# Altium integrated library NSC OtherParts.IntLib: 191 symbols (part 5 of 6)
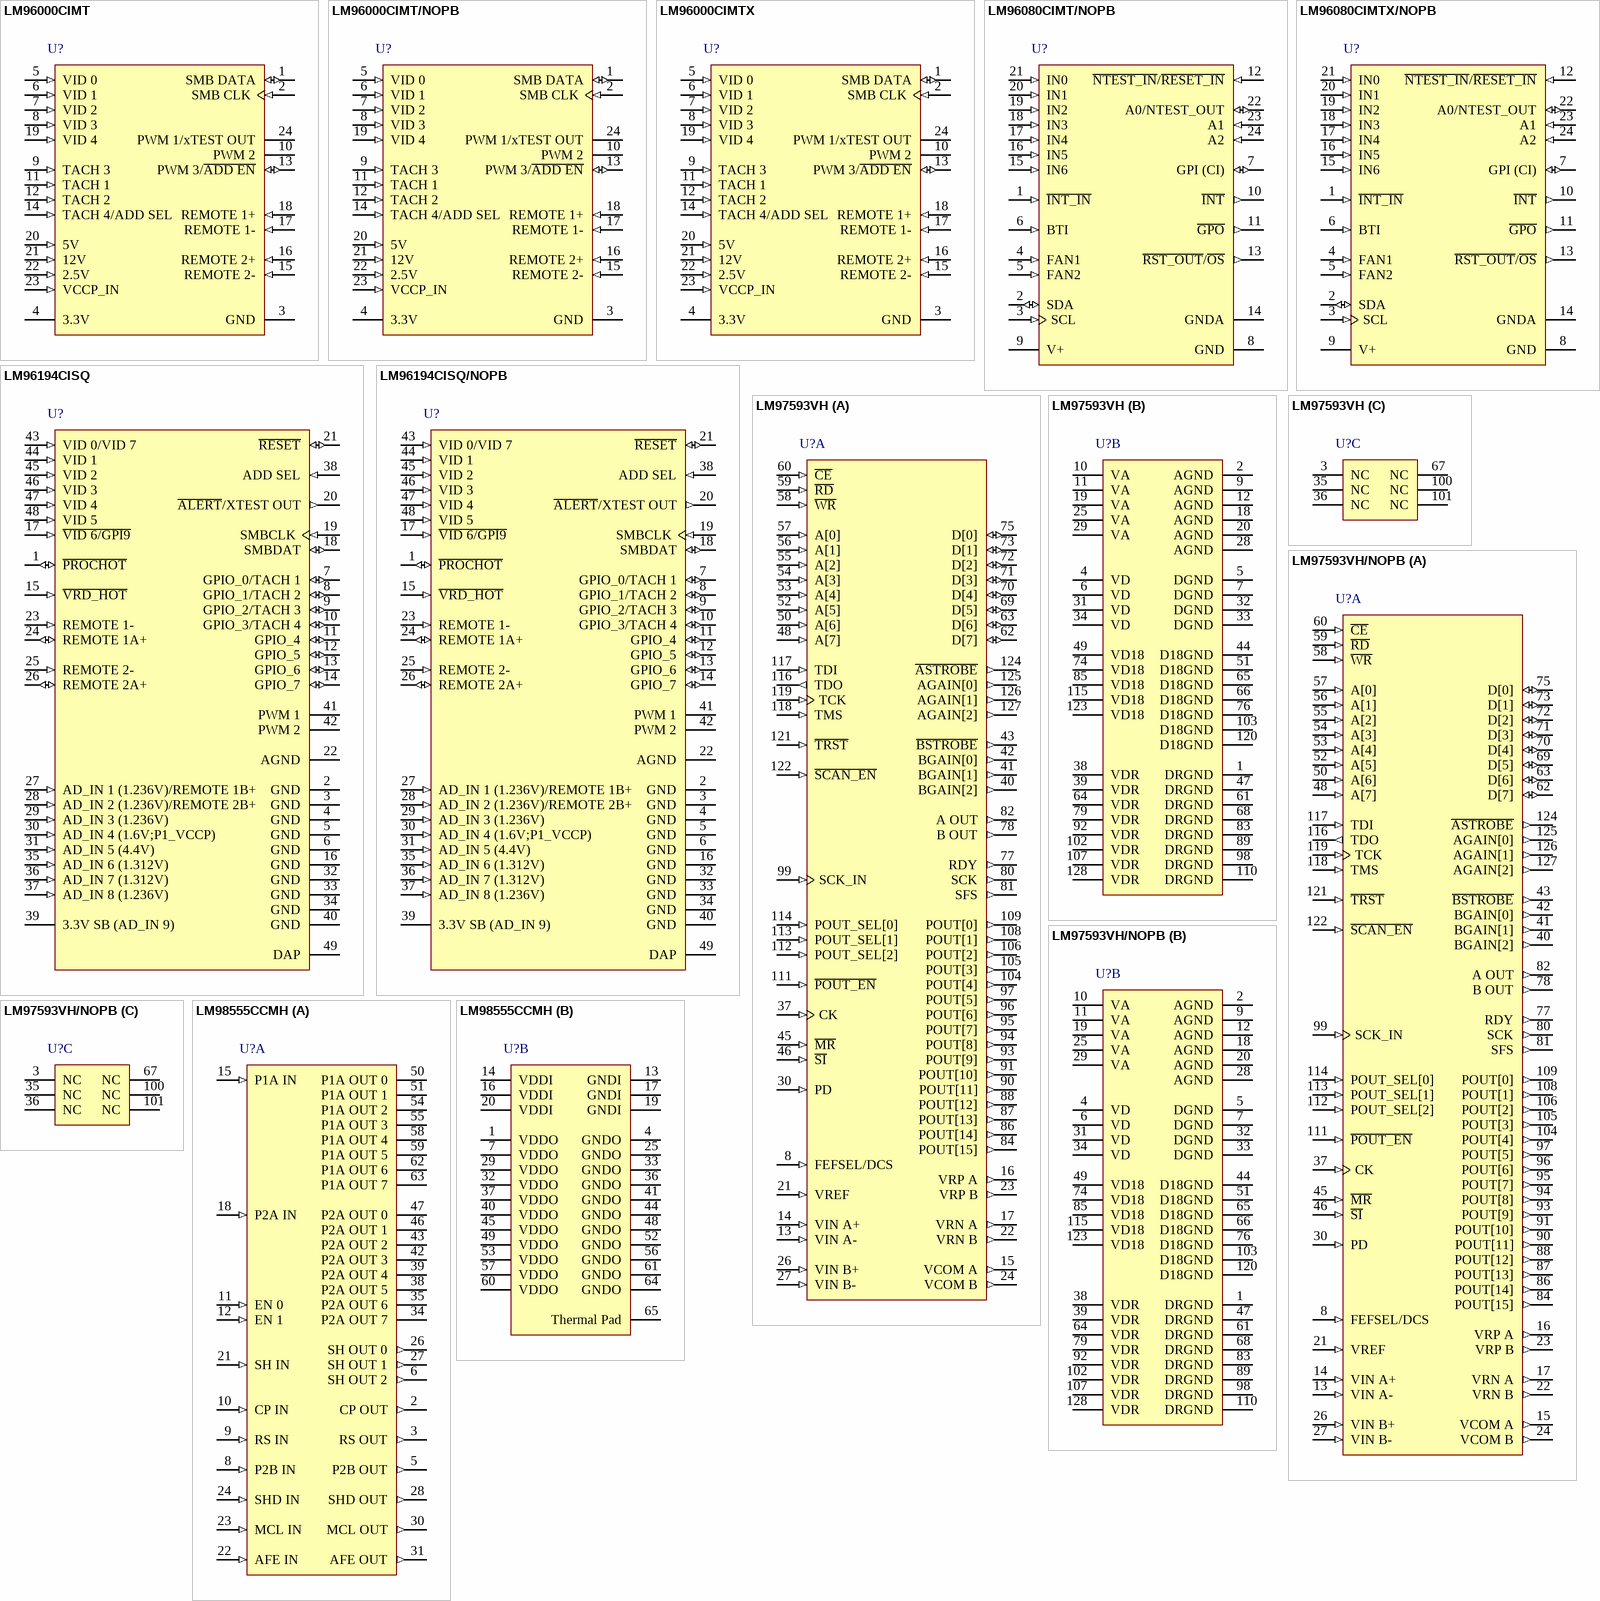
[diagram p14: symbols LM96000CIMT to LM98555CCMH]

## LM96000CIMT
designator U?
Hardware Monitor with Integrated Fan Control, 24-pin TSSOP; PartNumber: LM96000CIMT; Manufacturer: National Semiconductor; PackageTopMarking: NSUZXYTTE#*LM96000*CIMT; PowerWise: Y; CompType: OtherParts; Published: 4-Dec-2008; DatasheetVersion: Jul-2008; PackageVersion: revE, Mar-2003; PackageReference: MTC24; Publisher: Altium Limited; PackageDescription: Molded TSSOP, Jedec, 7.8 x 4.4 x 0.9mm Body, 24 Lead, 0.65mm Pitch; Supplier 1: Farnell; Supplier Part Number 1: 8181616; RoHS: N; PinCount: 24; Code_JEDEC: MO-153-AD; ComponentLink1Description: LM96000 Datasheet; ComponentLink1URL: http://www.national.com/ds/LM/LM96000.pdf; ComponentLink2Description: LM96000 Web Page; ComponentLink2URL: http://www.national.com/pf/LM/LM96000.html; ComponentLink3Description: MTC24 Package Page; ComponentLink3URL: http://www.national.com/packaging/folders/mtc24.html
footprint MTC24_N (TSOP, 24-Leads, Body 7.8x4.4mm, Pitch 0.65mm, IPC Medium Density)
footprint MTC24_L (TSOP, 24-Leads, Body 7.8x4.4mm, Pitch 0.65mm, IPC High Density)
footprint MTC24_M (TSOP, 24-Leads, Body 7.8x4.4mm, Pitch 0.65mm, IPC Low Density)
pins: 1 SMB DATA (io), 2 SMB CLK (in), 3 GND (power), 4 3.3V (power), 5 VID 0 (in), 6 VID 1 (in), 7 VID 2 (in), 8 VID 3 (in), 9 TACH 3 (in), 10 PWM 2 (oe), 11 TACH 1 (in), 12 TACH 2 (in), 13 PWM 3/~{ADD EN} (io), 14 TACH 4/ADD SEL (in), 15 REMOTE 2- (in), 16 REMOTE 2+ (in), 17 REMOTE 1- (in), 18 REMOTE 1+ (in), 19 VID 4 (in), 20 5V (in), 21 12V (in), 22 2.5V (in), 23 VCCP_IN (in), 24 PWM 1/xTEST OUT (oe)

## LM96000CIMT/NOPB
designator U?
Hardware Monitor with Integrated Fan Control, 24-pin TSSOP, Pb-Free; PartNumber: LM96000CIMT/NOPB; Manufacturer: National Semiconductor; PackageTopMarking: NSUZXYTTE#*LM96000*CIMT; PowerWise: Y; CompType: OtherParts; Published: 1-Mar-2010; DatasheetVersion: Jul-2008; PackageVersion: revE, Mar-2003; PackageReference: MTC24; Publisher: Altium Limited; PackageDescription: Molded TSSOP, Jedec, 7.8 x 4.4 x 0.9mm Body, 24 Lead, 0.65mm Pitch; Supplier 1: Digi-Key; Supplier Part Number 1: LM96000CIMT-ND; Supplier 2: Farnell; Supplier Part Number 2: 1685663; RoHS: Y; PinCount: 24; Code_JEDEC: MO-153-AD; ComponentLink1Description: LM96000 Datasheet; ComponentLink1URL: http://www.national.com/ds/LM/LM96000.pdf; ComponentLink2Description: LM96000 Web Page; ComponentLink2URL: http://www.national.com/pf/LM/LM96000.html; ComponentLink3Description: MTC24 Package Page; ComponentLink3URL: http://www.national.com/packaging/folders/mtc24.html
footprint MTC24_N (TSOP, 24-Leads, Body 7.8x4.4mm, Pitch 0.65mm, IPC Medium Density)
footprint MTC24_L (TSOP, 24-Leads, Body 7.8x4.4mm, Pitch 0.65mm, IPC High Density)
footprint MTC24_M (TSOP, 24-Leads, Body 7.8x4.4mm, Pitch 0.65mm, IPC Low Density)
pins: 1 SMB DATA (io), 2 SMB CLK (in), 3 GND (power), 4 3.3V (power), 5 VID 0 (in), 6 VID 1 (in), 7 VID 2 (in), 8 VID 3 (in), 9 TACH 3 (in), 10 PWM 2 (oe), 11 TACH 1 (in), 12 TACH 2 (in), 13 PWM 3/~{ADD EN} (io), 14 TACH 4/ADD SEL (in), 15 REMOTE 2- (in), 16 REMOTE 2+ (in), 17 REMOTE 1- (in), 18 REMOTE 1+ (in), 19 VID 4 (in), 20 5V (in), 21 12V (in), 22 2.5V (in), 23 VCCP_IN (in), 24 PWM 1/xTEST OUT (oe)

## LM96000CIMTX
designator U?
Hardware Monitor with Integrated Fan Control, 24-pin TSSOP; PartNumber: LM96000CIMTX; Manufacturer: National Semiconductor; PackageTopMarking: NSUZXYTTE#*LM96000*CIMT; PowerWise: Y; CompType: OtherParts; Published: 1-Mar-2010; DatasheetVersion: Jul-2008; PackageVersion: revE, Mar-2003; PackageReference: MTC24; Publisher: Altium Limited; PackageDescription: Molded TSSOP, Jedec, 7.8 x 4.4 x 0.9mm Body, 24 Lead, 0.65mm Pitch; RoHS: N; PinCount: 24; Code_JEDEC: MO-153-AD; ComponentLink1Description: LM96000 Datasheet; ComponentLink1URL: http://www.national.com/ds/LM/LM96000.pdf; ComponentLink2Description: LM96000 Web Page; ComponentLink2URL: http://www.national.com/pf/LM/LM96000.html; ComponentLink3Description: MTC24 Package Page; ComponentLink3URL: http://www.national.com/packaging/folders/mtc24.html
footprint MTC24_N (TSOP, 24-Leads, Body 7.8x4.4mm, Pitch 0.65mm, IPC Medium Density)
footprint MTC24_L (TSOP, 24-Leads, Body 7.8x4.4mm, Pitch 0.65mm, IPC High Density)
footprint MTC24_M (TSOP, 24-Leads, Body 7.8x4.4mm, Pitch 0.65mm, IPC Low Density)
pins: 1 SMB DATA (io), 2 SMB CLK (in), 3 GND (power), 4 3.3V (power), 5 VID 0 (in), 6 VID 1 (in), 7 VID 2 (in), 8 VID 3 (in), 9 TACH 3 (in), 10 PWM 2 (oe), 11 TACH 1 (in), 12 TACH 2 (in), 13 PWM 3/~{ADD EN} (io), 14 TACH 4/ADD SEL (in), 15 REMOTE 2- (in), 16 REMOTE 2+ (in), 17 REMOTE 1- (in), 18 REMOTE 1+ (in), 19 VID 4 (in), 20 5V (in), 21 12V (in), 22 2.5V (in), 23 VCCP_IN (in), 24 PWM 1/xTEST OUT (oe)

## LM96080CIMT/NOPB
designator U?
System Hardware Monitor with 2-Wire Serial Interface, 24-pin TSSOP, Pb-Free; PartNumber: LM96080CIMT/NOPB; Manufacturer: National Semiconductor; PackageTopMarking: NSUZXYTTE#*LM96080*CIMT; PowerWise: Y; CompType: OtherParts; Published: 1-Mar-2010; DatasheetVersion: Nov-2009; PackageVersion: revE, Mar-2003; PackageReference: MTC24; Publisher: Altium Limited; PackageDescription: Molded TSSOP, Jedec, 7.8 x 4.4 x 0.9mm Body, 24 Lead, 0.65mm Pitch; Supplier 1: Digi-Key; Supplier Part Number 1: LM96080CIM-ND; Supplier 2: Farnell; Supplier Part Number 2: 1791111; RoHS: Y; PinCount: 24; Code_JEDEC: MO-153-AD; ComponentLink1Description: LM96080 Datasheet; ComponentLink1URL: http://www.national.com/ds/LM/LM96080.pdf; ComponentLink2Description: LM96080 Web Page; ComponentLink2URL: http://www.national.com/pf/LM/LM96080.html; ComponentLink3Description: MTC24 Package Page; ComponentLink3URL: http://www.national.com/packaging/folders/mtc24.html
footprint MTC24_N (TSOP, 24-Leads, Body 7.8x4.4mm, Pitch 0.65mm, IPC Medium Density)
footprint MTC24_L (TSOP, 24-Leads, Body 7.8x4.4mm, Pitch 0.65mm, IPC High Density)
footprint MTC24_M (TSOP, 24-Leads, Body 7.8x4.4mm, Pitch 0.65mm, IPC Low Density)
pins: 1 ~{INT_IN} (in), 2 SDA (io), 3 SCL (in), 4 FAN1 (in), 5 FAN2 (in), 6 BTI (in), 7 GPI (CI) (io), 8 GND (power), 9 V+ (power), 10 ~{INT} (out), 11 ~{GPO} (out), 12 ~{NTEST_IN}/~{RESET_IN} (in), 13 ~{RST_OUT}/~{OS} (out), 14 GNDA (power), 15 IN6 (in), 16 IN5 (in), 17 IN4 (in), 18 IN3 (in), 19 IN2 (in), 20 IN1 (in), 21 IN0 (in), 22 A0/NTEST_OUT (io), 23 A1 (in), 24 A2 (in)

## LM96080CIMTX/NOPB
designator U?
System Hardware Monitor with 2-Wire Serial Interface, 24-pin TSSOP, Pb-Free; PartNumber: LM96080CIMTX/NOPB; Manufacturer: National Semiconductor; PackageTopMarking: NSUZXYTTE#*LM96080*CIMT; PowerWise: Y; CompType: OtherParts; Published: 1-Mar-2010; DatasheetVersion: Nov-2009; PackageVersion: revE, Mar-2003; PackageReference: MTC24; Publisher: Altium Limited; PackageDescription: Molded TSSOP, Jedec, 7.8 x 4.4 x 0.9mm Body, 24 Lead, 0.65mm Pitch; Supplier 1: Digi-Key; Supplier Part Number 1: LM96080CIMTX-ND; RoHS: Y; PinCount: 24; Code_JEDEC: MO-153-AD; ComponentLink1Description: LM96080 Datasheet; ComponentLink1URL: http://www.national.com/ds/LM/LM96080.pdf; ComponentLink2Description: LM96080 Web Page; ComponentLink2URL: http://www.national.com/pf/LM/LM96080.html; ComponentLink3Description: MTC24 Package Page; ComponentLink3URL: http://www.national.com/packaging/folders/mtc24.html
footprint MTC24_N (TSOP, 24-Leads, Body 7.8x4.4mm, Pitch 0.65mm, IPC Medium Density)
footprint MTC24_L (TSOP, 24-Leads, Body 7.8x4.4mm, Pitch 0.65mm, IPC High Density)
footprint MTC24_M (TSOP, 24-Leads, Body 7.8x4.4mm, Pitch 0.65mm, IPC Low Density)
pins: 1 ~{INT_IN} (in), 2 SDA (io), 3 SCL (in), 4 FAN1 (in), 5 FAN2 (in), 6 BTI (in), 7 GPI (CI) (io), 8 GND (power), 9 V+ (power), 10 ~{INT} (out), 11 ~{GPO} (out), 12 ~{NTEST_IN}/~{RESET_IN} (in), 13 ~{RST_OUT}/~{OS} (out), 14 GNDA (power), 15 IN6 (in), 16 IN5 (in), 17 IN4 (in), 18 IN3 (in), 19 IN2 (in), 20 IN1 (in), 21 IN0 (in), 22 A0/NTEST_OUT (io), 23 A1 (in), 24 A2 (in)

## LM96194CISQ
designator U?
TruTherm Hardware Monitor with PI Fan Control for Workstation Management, 48-pin LLP; PartNumber: LM96194CISQ; Manufacturer: National Semiconductor; PackageTopMarking: THHD*XTT; PowerWise: Y; CompType: OtherParts; Published: 4-Dec-2008; DatasheetVersion: Mar-2004; PackageVersion: revB, May-2009; PackageReference: SQA48A; Publisher: Altium Limited; PackageDescription: LLP, Plastic, Quad, 7 x 7 x 0.8mm Body, 48 Lead, 0.5mm Pitch, No Pullback; RoHS: Y; PinCount: 48; Code_JEDEC: MO-220-WKKD-2; ComponentLink1Description: LM96194 Datasheet; ComponentLink1URL: http://www.national.com/ds/LM/LM96194.pdf; ComponentLink2Description: LM96194 Web Page; ComponentLink2URL: http://www.national.com/pf/LM/LM96194.html; ComponentLink3Description: SQA48A Package Page; ComponentLink3URL: http://www.national.com/packaging/folders/sqa48a.html
footprint SQA48A (QFN, 48-Leads, Body 7x7mm, Pitch 0.5mm, NSC Recommended)
pins: 1 ~{PROCHOT} (io), 2 GND (power), 3 GND (power), 4 GND (power), 5 GND (power), 6 GND (power), 7 GPIO_0/TACH 1 (io), 8 GPIO_1/TACH 2 (io), 9 GPIO_2/TACH 3 (io), 10 GPIO_3/TACH 4 (io), 11 GPIO_4 (io), 12 GPIO_5 (io), 13 GPIO_6 (io), 14 GPIO_7 (io), 15 ~{VRD_HOT} (in), 16 GND (power), 17 ~{VID 6/GPI9} (in), 18 SMBDAT (io), 19 SMBCLK (in), 20 ~{ALERT}/XTEST OUT (out), 21 ~{RESET} (io), 22 AGND (power), 23 REMOTE 1- (in), 24 REMOTE 1A+ (io), 25 REMOTE 2- (in), 26 REMOTE 2A+ (io), 27 AD_IN 1 (1.236V)/REMOTE 1B+ (in), 28 AD_IN 2 (1.236V)/REMOTE 2B+ (in), 29 AD_IN 3 (1.236V) (in), 30 AD_IN 4 (1.6V;P1_VCCP) (in), 31 AD_IN 5 (4.4V) (in), 32 GND (power), 33 GND (power), 34 GND (power), 35 AD_IN 6 (1.312V) (in), 36 AD_IN 7 (1.312V) (in), 37 AD_IN 8 (1.236V) (in), 38 ADD SEL (in), 39 3.3V SB (AD_IN 9) (power), 40 GND (power), 41 PWM 1 (oe), 42 PWM 2 (oe), 43 VID 0/VID 7 (in), 44 VID 1 (in), 45 VID 2 (in), 46 VID 3 (in), 47 VID 4 (in), 48 VID 5 (in), 49 DAP (power)

## LM96194CISQ/NOPB
designator U?
TruTherm Hardware Monitor with PI Fan Control for Workstation Management, 48-pin LLP, Pb-Free; PartNumber: LM96194CISQ/NOPB; Manufacturer: National Semiconductor; PackageTopMarking: NS*UZXYTTE#*LM96194; PowerWise: Y; CompType: OtherParts; Published: 1-Mar-2010; DatasheetVersion: Mar-2004; PackageVersion: revB, May-2009; PackageReference: SQA48A; Publisher: Altium Limited; PackageDescription: LLP, Plastic, Quad, 7 x 7 x 0.8mm Body, 48 Lead, 0.5mm Pitch, No Pullback; Supplier 1: Digi-Key; Supplier Part Number 1: LM96194CISQTR-ND; Supplier 2: Digi-Key; Supplier Part Number 2: LM96194CISQCT-ND; Supplier 3: Digi-Key; Supplier Part Number 3: LM96194CISQDKR-ND; RoHS: Y; PinCount: 48; Code_JEDEC: MO-220-WKKD-2; ComponentLink1Description: LM96194 Datasheet; ComponentLink1URL: http://www.national.com/ds/LM/LM96194.pdf; ComponentLink2Description: LM96194 Web Page; ComponentLink2URL: http://www.national.com/pf/LM/LM96194.html; ComponentLink3Description: SQA48A Package Page; ComponentLink3URL: http://www.national.com/packaging/folders/sqa48a.html
footprint SQA48A (QFN, 48-Leads, Body 7x7mm, Pitch 0.5mm, NSC Recommended)
pins: 1 ~{PROCHOT} (io), 2 GND (power), 3 GND (power), 4 GND (power), 5 GND (power), 6 GND (power), 7 GPIO_0/TACH 1 (io), 8 GPIO_1/TACH 2 (io), 9 GPIO_2/TACH 3 (io), 10 GPIO_3/TACH 4 (io), 11 GPIO_4 (io), 12 GPIO_5 (io), 13 GPIO_6 (io), 14 GPIO_7 (io), 15 ~{VRD_HOT} (in), 16 GND (power), 17 ~{VID 6/GPI9} (in), 18 SMBDAT (io), 19 SMBCLK (in), 20 ~{ALERT}/XTEST OUT (out), 21 ~{RESET} (io), 22 AGND (power), 23 REMOTE 1- (in), 24 REMOTE 1A+ (io), 25 REMOTE 2- (in), 26 REMOTE 2A+ (io), 27 AD_IN 1 (1.236V)/REMOTE 1B+ (in), 28 AD_IN 2 (1.236V)/REMOTE 2B+ (in), 29 AD_IN 3 (1.236V) (in), 30 AD_IN 4 (1.6V;P1_VCCP) (in), 31 AD_IN 5 (4.4V) (in), 32 GND (power), 33 GND (power), 34 GND (power), 35 AD_IN 6 (1.312V) (in), 36 AD_IN 7 (1.312V) (in), 37 AD_IN 8 (1.236V) (in), 38 ADD SEL (in), 39 3.3V SB (AD_IN 9) (power), 40 GND (power), 41 PWM 1 (oe), 42 PWM 2 (oe), 43 VID 0/VID 7 (in), 44 VID 1 (in), 45 VID 2 (in), 46 VID 3 (in), 47 VID 4 (in), 48 VID 5 (in), 49 DAP (power)

## LM97593VH
designator U?
Dual ADC / Digital Tuner / AGC, 128-pin PQFP; PartNumber: LM97593VH; Manufacturer: National Semiconductor; PackageTopMarking: THHD*XTT; PowerWise: N; CompType: OtherParts; Published: 4-Dec-2008; DatasheetVersion: Mar-2008; PackageVersion: revC, Jun-1998; PackageReference: VLA128A; Publisher: Altium Limited; PackageDescription: PQFP, (S), 14 x 20 x 2.7mm, 128 Lead; Supplier 1: Farnell; Supplier Part Number 1: 1667421; RoHS: Y; PinCount: 128; ComponentLink1Description: LM97593 Datasheet; ComponentLink1URL: http://www.national.com/ds/LM/LM97593.pdf; ComponentLink2Description: LM97593 Web Page; ComponentLink2URL: http://www.national.com/pf/LM/LM97593.html; ComponentLink3Description: VLA128A Package Page; ComponentLink3URL: http://www.national.com/packaging/folders/vla128a.html
footprint VLA128A_N (Shrink QFP, 128-Leads, Body 20x14 mm, Pitch 0.5mm, IPC Medium Density)
footprint VLA128A_L (Shrink QFP, 128-Leads, Body 20x14 mm, Pitch 0.5mm, IPC High Density)
footprint VLA128A_M (Shrink QFP, 128-Leads, Body 20x14 mm, Pitch 0.5mm, IPC Low Density)
part A pins: 8 FEFSEL/DCS (in), 13 VIN A- (in), 14 VIN A+ (in), 15 VCOM A (out), 16 VRP A (out), 17 VRN A (out), 21 VREF (in), 22 VRN B (out), 23 VRP B (out), 24 VCOM B (out), 26 VIN B+ (in), 27 VIN B- (in), 30 PD (in), 37 CK (in), 40 BGAIN[2] (out), 41 BGAIN[1] (out), 42 BGAIN[0] (out), 43 ~{BSTROBE} (out), 45 ~{MR} (in), 46 ~{SI} (in), 48 A[7] (in), 50 A[6] (in), 52 A[5] (in), 53 A[4] (in), 54 A[3] (in), 55 A[2] (in), 56 A[1] (in), 57 A[0] (in), 58 ~{WR} (in), 59 ~{RD} (in), 60 ~{CE} (in), 62 D[7] (io), 63 D[6] (io), 69 D[5] (io), 70 D[4] (io), 71 D[3] (io), 72 D[2] (io), 73 D[1] (io), 75 D[0] (io), 77 RDY (out), 78 B OUT (out), 80 SCK (out), 81 SFS (out), 82 A OUT (out), 84 POUT[15] (out), 86 POUT[14] (out), 87 POUT[13] (out), 88 POUT[12] (out), 90 POUT[11] (out), 91 POUT[10] (out), 93 POUT[9] (out), 94 POUT[8] (out), 95 POUT[7] (out), 96 POUT[6] (out), 97 POUT[5] (out), 99 SCK_IN (in), 104 POUT[4] (out), 105 POUT[3] (out), 106 POUT[2] (out), 108 POUT[1] (out), 109 POUT[0] (out), 111 ~{POUT_EN} (in), 112 POUT_SEL[2] (in), 113 POUT_SEL[1] (in), 114 POUT_SEL[0] (in), 116 TDO (out), 117 TDI (in), 118 TMS (in), 119 TCK (in), 121 ~{TRST} (in), 122 ~{SCAN_EN} (in), 124 ~{ASTROBE} (out), 125 AGAIN[0] (out), 126 AGAIN[1] (out), 127 AGAIN[2] (out)
part B pins: 1 DRGND (power), 2 AGND (power), 4 VD (power), 5 DGND (power), 6 VD (power), 7 DGND (power), 9 AGND (power), 10 VA (power), 11 VA (power), 12 AGND (power), 18 AGND (power), 19 VA (power), 20 AGND (power), 25 VA (power), 28 AGND (power), 29 VA (power), 31 VD (power), 32 DGND (power), 33 DGND (power), 34 VD (power), 38 VDR (power), 39 VDR (power), 44 D18GND (power), 47 DRGND (power), 49 VD18 (power), 51 D18GND (power), 61 DRGND (power), 64 VDR (power), 65 D18GND (power), 66 D18GND (power), 68 DRGND (power), 74 VD18 (power), 76 D18GND (power), 79 VDR (power), 83 DRGND (power), 85 VD18 (power), 89 DRGND (power), 92 VDR (power), 98 DRGND (power), 102 VDR (power), 103 D18GND (power), 107 VDR (power), 110 DRGND (power), 115 VD18 (power), 120 D18GND (power), 123 VD18 (power), 128 VDR (power)
part C pins: 3 NC, 35 NC, 36 NC, 67 NC, 100 NC, 101 NC

## LM97593VH/NOPB
designator U?
Dual ADC / Digital Tuner / AGC, 128-pin PQFP, Pb-Free; PartNumber: LM97593VH/NOPB; Manufacturer: National Semiconductor; PackageTopMarking: NSUZXYYTTE#*LM97593VH; PowerWise: N; CompType: OtherParts; Published: 1-Mar-2010; DatasheetVersion: Mar-2008; PackageVersion: revC, Jun-1998; PackageReference: VLA128A; Publisher: Altium Limited; PackageDescription: PQFP, (S), 14 x 20 x 2.7mm, 128 Lead; Supplier 1: Digi-Key; Supplier Part Number 1: LM97593VH-ND; RoHS: Y; PinCount: 128; ComponentLink1Description: LM97593 Datasheet; ComponentLink1URL: http://www.national.com/ds/LM/LM97593.pdf; ComponentLink2Description: LM97593 Web Page; ComponentLink2URL: http://www.national.com/pf/LM/LM97593.html; ComponentLink3Description: VLA128A Package Page; ComponentLink3URL: http://www.national.com/packaging/folders/vla128a.html
footprint VLA128A_N (Shrink QFP, 128-Leads, Body 20x14 mm, Pitch 0.5mm, IPC Medium Density)
footprint VLA128A_L (Shrink QFP, 128-Leads, Body 20x14 mm, Pitch 0.5mm, IPC High Density)
footprint VLA128A_M (Shrink QFP, 128-Leads, Body 20x14 mm, Pitch 0.5mm, IPC Low Density)
part A pins: 8 FEFSEL/DCS (in), 13 VIN A- (in), 14 VIN A+ (in), 15 VCOM A (out), 16 VRP A (out), 17 VRN A (out), 21 VREF (in), 22 VRN B (out), 23 VRP B (out), 24 VCOM B (out), 26 VIN B+ (in), 27 VIN B- (in), 30 PD (in), 37 CK (in), 40 BGAIN[2] (out), 41 BGAIN[1] (out), 42 BGAIN[0] (out), 43 ~{BSTROBE} (out), 45 ~{MR} (in), 46 ~{SI} (in), 48 A[7] (in), 50 A[6] (in), 52 A[5] (in), 53 A[4] (in), 54 A[3] (in), 55 A[2] (in), 56 A[1] (in), 57 A[0] (in), 58 ~{WR} (in), 59 ~{RD} (in), 60 ~{CE} (in), 62 D[7] (io), 63 D[6] (io), 69 D[5] (io), 70 D[4] (io), 71 D[3] (io), 72 D[2] (io), 73 D[1] (io), 75 D[0] (io), 77 RDY (out), 78 B OUT (out), 80 SCK (out), 81 SFS (out), 82 A OUT (out), 84 POUT[15] (out), 86 POUT[14] (out), 87 POUT[13] (out), 88 POUT[12] (out), 90 POUT[11] (out), 91 POUT[10] (out), 93 POUT[9] (out), 94 POUT[8] (out), 95 POUT[7] (out), 96 POUT[6] (out), 97 POUT[5] (out), 99 SCK_IN (in), 104 POUT[4] (out), 105 POUT[3] (out), 106 POUT[2] (out), 108 POUT[1] (out), 109 POUT[0] (out), 111 ~{POUT_EN} (in), 112 POUT_SEL[2] (in), 113 POUT_SEL[1] (in), 114 POUT_SEL[0] (in), 116 TDO (out), 117 TDI (in), 118 TMS (in), 119 TCK (in), 121 ~{TRST} (in), 122 ~{SCAN_EN} (in), 124 ~{ASTROBE} (out), 125 AGAIN[0] (out), 126 AGAIN[1] (out), 127 AGAIN[2] (out)
part B pins: 1 DRGND (power), 2 AGND (power), 4 VD (power), 5 DGND (power), 6 VD (power), 7 DGND (power), 9 AGND (power), 10 VA (power), 11 VA (power), 12 AGND (power), 18 AGND (power), 19 VA (power), 20 AGND (power), 25 VA (power), 28 AGND (power), 29 VA (power), 31 VD (power), 32 DGND (power), 33 DGND (power), 34 VD (power), 38 VDR (power), 39 VDR (power), 44 D18GND (power), 47 DRGND (power), 49 VD18 (power), 51 D18GND (power), 61 DRGND (power), 64 VDR (power), 65 D18GND (power), 66 D18GND (power), 68 DRGND (power), 74 VD18 (power), 76 D18GND (power), 79 VDR (power), 83 DRGND (power), 85 VD18 (power), 89 DRGND (power), 92 VDR (power), 98 DRGND (power), 102 VDR (power), 103 D18GND (power), 107 VDR (power), 110 DRGND (power), 115 VD18 (power), 120 D18GND (power), 123 VD18 (power), 128 VDR (power)
part C pins: 3 NC, 35 NC, 36 NC, 67 NC, 100 NC, 101 NC

## LM98555CCMH
designator U?
CCD Driver, 64-pin TSSOP-EP; PartNumber: LM98555CCMH; Manufacturer: National Semiconductor; PackageTopMarking: THHD*XTT; PowerWise: N; CompType: OtherParts; Published: 4-Dec-2008; DatasheetVersion: Aug-2007; PackageVersion: revA, Feb-2004; PackageReference: MXD64A; Publisher: Altium Limited; PackageDescription: Molded TSSOP, JEDEC, 17 x 6.1 x 0.9mm Body, 64 Lead, 0.5mm Pitch, Exposed Pad; RoHS: Y; PinCount: 65; Code_JEDEC: MO-153-EFT; ComponentLink1Description: LM98555 Datasheet; ComponentLink1URL: http://www.national.com/ds/LM/LM98555.pdf; ComponentLink2Description: LM98555 Web Page; ComponentLink2URL: http://www.national.com/pf/LM/LM98555.html; ComponentLink3Description: MXD64A Package Page; ComponentLink3URL: http://www.national.com/packaging/folders/mxd64a.html
footprint MXD64A_N (TSSOP, 64-Leads, Body 17x6.1mm, Pitch 0.5mm, Exposed Pad, IPC Medium Density)
footprint MXD64A_L (TSSOP, 64-Leads, Body 17x6.1mm, Pitch 0.5mm, Exposed Pad, IPC High Density)
footprint MXD64A_M (TSSOP, 64-Leads, Body 17x6.1mm, Pitch 0.5mm, Exposed Pad, IPC Low Density)
part A pins: 2 CP OUT (out), 3 RS OUT (out), 5 P2B OUT (out), 6 SH OUT 2 (out), 8 P2B IN (in), 9 RS IN (in), 10 CP IN (in), 11 EN 0 (in), 12 EN 1 (in), 15 P1A IN (in), 18 P2A IN (in), 21 SH IN (in), 22 AFE IN (in), 23 MCL IN (in), 24 SHD IN (in), 26 SH OUT 0 (out), 27 SH OUT 1 (out), 28 SHD OUT (out), 30 MCL OUT (out), 31 AFE OUT (out), 34 P2A OUT 7 (hiz), 35 P2A OUT 6 (hiz), 38 P2A OUT 5 (hiz), 39 P2A OUT 4 (hiz), 42 P2A OUT 3 (hiz), 43 P2A OUT 2 (hiz), 46 P2A OUT 1 (hiz), 47 P2A OUT 0 (hiz), 50 P1A OUT 0 (hiz), 51 P1A OUT 1 (hiz), 54 P1A OUT 2 (hiz), 55 P1A OUT 3 (hiz), 58 P1A OUT 4 (hiz), 59 P1A OUT 5 (hiz), 62 P1A OUT 6 (hiz), 63 P1A OUT 7 (hiz)
part B pins: 1 VDDO (power), 4 GNDO (power), 7 VDDO (power), 13 GNDI (power), 14 VDDI (power), 16 VDDI (power), 17 GNDI (power), 19 GNDI (power), 20 VDDI (power), 25 GNDO (power), 29 VDDO (power), 32 VDDO (power), 33 GNDO (power), 36 GNDO (power), 37 VDDO (power), 40 VDDO (power), 41 GNDO (power), 44 GNDO (power), 45 VDDO (power), 48 GNDO (power), 49 VDDO (power), 52 GNDO (power), 53 VDDO (power), 56 GNDO (power), 57 VDDO (power), 60 VDDO (power), 61 GNDO (power), 64 GNDO (power), 65 Thermal Pad (power)

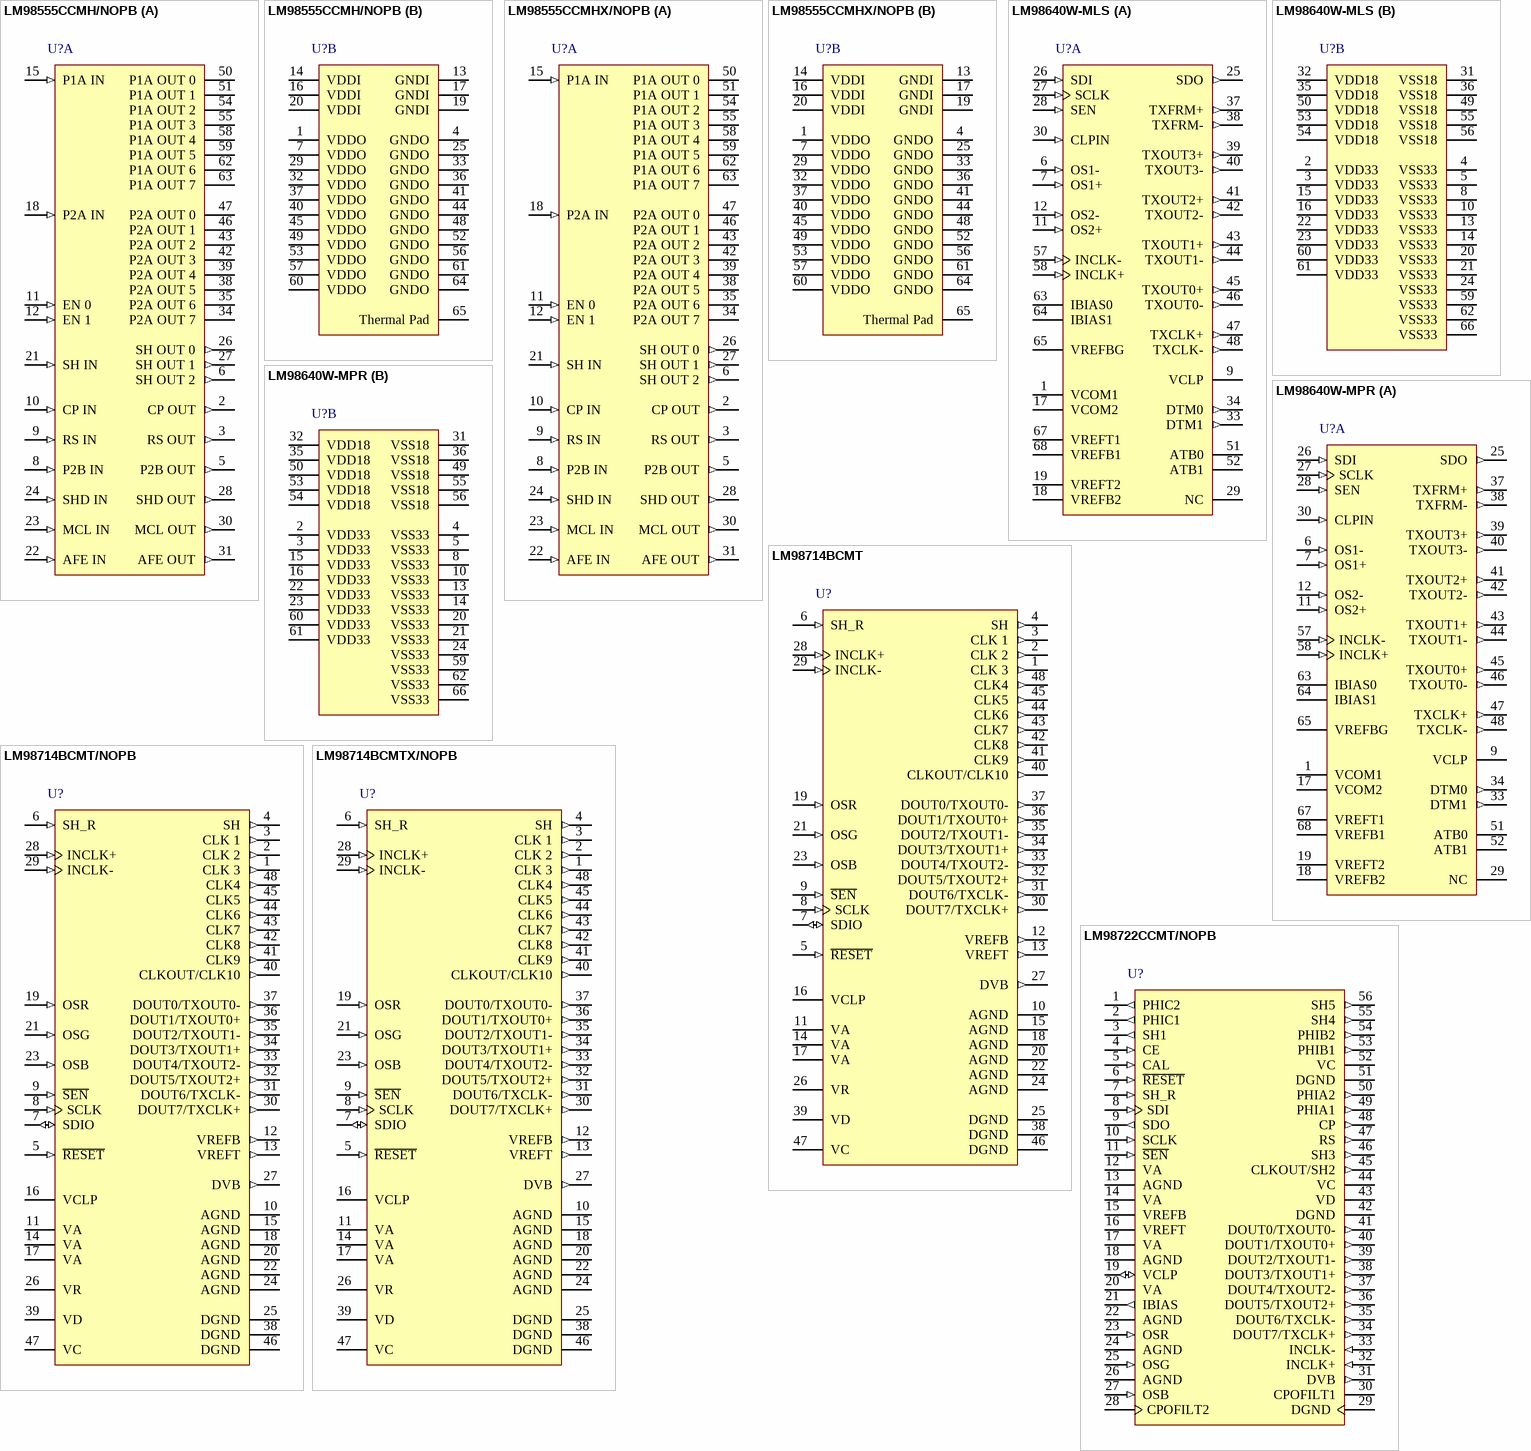
[diagram p8: symbols LM98555CCMH/NOPB to LM98722CCMT/NOPB]

## LM98555CCMH/NOPB
designator U?
CCD Driver, 64-pin TSSOP-EP, Pb-Free; PartNumber: LM98555CCMH/NOPB; Manufacturer: National Semiconductor; PackageTopMarking: NSUZXYTTE#*LM98555*CCMH; PowerWise: N; CompType: OtherParts; Published: 1-Mar-2010; DatasheetVersion: Aug-2007; PackageVersion: revA, Feb-2004; PackageReference: MXD64A; Publisher: Altium Limited; PackageDescription: Molded TSSOP, JEDEC, 17 x 6.1 x 0.9mm Body, 64 Lead, 0.5mm Pitch, Exposed Pad; Supplier 1: Digi-Key; Supplier Part Number 1: LM98555CCMH-ND; RoHS: Y; PinCount: 64; Code_JEDEC: MO-153-EFT; ComponentLink1Description: LM98555 Datasheet; ComponentLink1URL: http://www.national.com/ds/LM/LM98555.pdf; ComponentLink2Description: LM98555 Web Page; ComponentLink2URL: http://www.national.com/pf/LM/LM98555.html; ComponentLink3Description: MXD64A Package Page; ComponentLink3URL: http://www.national.com/packaging/folders/mxd64a.html
footprint MXD64A_N (TSSOP, 64-Leads, Body 17x6.1mm, Pitch 0.5mm, Exposed Pad, IPC Medium Density)
footprint MXD64A_L (TSSOP, 64-Leads, Body 17x6.1mm, Pitch 0.5mm, Exposed Pad, IPC High Density)
footprint MXD64A_M (TSSOP, 64-Leads, Body 17x6.1mm, Pitch 0.5mm, Exposed Pad, IPC Low Density)
part A pins: 2 CP OUT (out), 3 RS OUT (out), 5 P2B OUT (out), 6 SH OUT 2 (out), 8 P2B IN (in), 9 RS IN (in), 10 CP IN (in), 11 EN 0 (in), 12 EN 1 (in), 15 P1A IN (in), 18 P2A IN (in), 21 SH IN (in), 22 AFE IN (in), 23 MCL IN (in), 24 SHD IN (in), 26 SH OUT 0 (out), 27 SH OUT 1 (out), 28 SHD OUT (out), 30 MCL OUT (out), 31 AFE OUT (out), 34 P2A OUT 7 (hiz), 35 P2A OUT 6 (hiz), 38 P2A OUT 5 (hiz), 39 P2A OUT 4 (hiz), 42 P2A OUT 3 (hiz), 43 P2A OUT 2 (hiz), 46 P2A OUT 1 (hiz), 47 P2A OUT 0 (hiz), 50 P1A OUT 0 (hiz), 51 P1A OUT 1 (hiz), 54 P1A OUT 2 (hiz), 55 P1A OUT 3 (hiz), 58 P1A OUT 4 (hiz), 59 P1A OUT 5 (hiz), 62 P1A OUT 6 (hiz), 63 P1A OUT 7 (hiz)
part B pins: 1 VDDO (power), 4 GNDO (power), 7 VDDO (power), 13 GNDI (power), 14 VDDI (power), 16 VDDI (power), 17 GNDI (power), 19 GNDI (power), 20 VDDI (power), 25 GNDO (power), 29 VDDO (power), 32 VDDO (power), 33 GNDO (power), 36 GNDO (power), 37 VDDO (power), 40 VDDO (power), 41 GNDO (power), 44 GNDO (power), 45 VDDO (power), 48 GNDO (power), 49 VDDO (power), 52 GNDO (power), 53 VDDO (power), 56 GNDO (power), 57 VDDO (power), 60 VDDO (power), 61 GNDO (power), 64 GNDO (power), 65 Thermal Pad (power)

## LM98555CCMHX/NOPB
designator U?
CCD Driver, 64-pin TSSOP-EP, Pb-Free; PartNumber: LM98555CCMHX/NOPB; Manufacturer: National Semiconductor; PackageTopMarking: NSUZXYTTE#*LM98555*CCMH; PowerWise: N; CompType: OtherParts; Published: 1-Mar-2010; DatasheetVersion: Aug-2007; PackageVersion: revA, Feb-2004; PackageReference: MXD64A; Publisher: Altium Limited; PackageDescription: Molded TSSOP, JEDEC, 17 x 6.1 x 0.9mm Body, 64 Lead, 0.5mm Pitch, Exposed Pad; Supplier 1: Digi-Key; Supplier Part Number 1: LM98555CCMHX-ND; RoHS: Y; PinCount: 64; Code_JEDEC: MO-153-EFT; ComponentLink1Description: LM98555 Datasheet; ComponentLink1URL: http://www.national.com/ds/LM/LM98555.pdf; ComponentLink2Description: LM98555 Web Page; ComponentLink2URL: http://www.national.com/pf/LM/LM98555.html; ComponentLink3Description: MXD64A Package Page; ComponentLink3URL: http://www.national.com/packaging/folders/mxd64a.html
footprint MXD64A_N (TSSOP, 64-Leads, Body 17x6.1mm, Pitch 0.5mm, Exposed Pad, IPC Medium Density)
footprint MXD64A_L (TSSOP, 64-Leads, Body 17x6.1mm, Pitch 0.5mm, Exposed Pad, IPC High Density)
footprint MXD64A_M (TSSOP, 64-Leads, Body 17x6.1mm, Pitch 0.5mm, Exposed Pad, IPC Low Density)
part A pins: 2 CP OUT (out), 3 RS OUT (out), 5 P2B OUT (out), 6 SH OUT 2 (out), 8 P2B IN (in), 9 RS IN (in), 10 CP IN (in), 11 EN 0 (in), 12 EN 1 (in), 15 P1A IN (in), 18 P2A IN (in), 21 SH IN (in), 22 AFE IN (in), 23 MCL IN (in), 24 SHD IN (in), 26 SH OUT 0 (out), 27 SH OUT 1 (out), 28 SHD OUT (out), 30 MCL OUT (out), 31 AFE OUT (out), 34 P2A OUT 7 (hiz), 35 P2A OUT 6 (hiz), 38 P2A OUT 5 (hiz), 39 P2A OUT 4 (hiz), 42 P2A OUT 3 (hiz), 43 P2A OUT 2 (hiz), 46 P2A OUT 1 (hiz), 47 P2A OUT 0 (hiz), 50 P1A OUT 0 (hiz), 51 P1A OUT 1 (hiz), 54 P1A OUT 2 (hiz), 55 P1A OUT 3 (hiz), 58 P1A OUT 4 (hiz), 59 P1A OUT 5 (hiz), 62 P1A OUT 6 (hiz), 63 P1A OUT 7 (hiz)
part B pins: 1 VDDO (power), 4 GNDO (power), 7 VDDO (power), 13 GNDI (power), 14 VDDI (power), 16 VDDI (power), 17 GNDI (power), 19 GNDI (power), 20 VDDI (power), 25 GNDO (power), 29 VDDO (power), 32 VDDO (power), 33 GNDO (power), 36 GNDO (power), 37 VDDO (power), 40 VDDO (power), 41 GNDO (power), 44 GNDO (power), 45 VDDO (power), 48 GNDO (power), 49 VDDO (power), 52 GNDO (power), 53 VDDO (power), 56 GNDO (power), 57 VDDO (power), 60 VDDO (power), 61 GNDO (power), 64 GNDO (power), 65 Thermal Pad (power)

## LM98640W-MLS
designator U?
Dual Channel, 14-Bit, 40 MSPS Analog Front End with LVDS Output, 68 pin CQFP; PartNumber: LM98640W-MLS; Manufacturer: National Semiconductor; PackageTopMarking: NSZSSXXYYA*LM98640W-MLS; PowerWise: N; CompType: OtherParts; High-Reliability: Y; Published: 16-Nov-2010; DatasheetVersion: May-2010; PackageVersion: revB, Jul-2009; PackageReference: EL68D; Publisher: Altium Limited; PackageDescription: 68-Lead Ceramic Quad Flat Pack, 24.13 x 24.13 x 3.10 mm Body, 1.27 mm Pitch (CQFP); RoHS: N; PinCount: 68; ComponentLink1Description: LM98640QML Datasheet; ComponentLink1URL: http://www.national.com/ds/LM/LM98640QML.pdf; ComponentLink2Description: LM98640QML Web Page; ComponentLink2URL: http://www.national.com/pf/LM/LM98640QML.html
footprint EL68D_N (CQFP, 68-Leads, Body 24.1x24.1mm; Pitch 1.27mm, Gullwing Leadform, IPC Medium Density)
footprint EL68D_L (CQFP, 68-Leads, Body 24.1x24.1mm; Pitch 1.27mm, Gullwing Leadform, IPC High Density)
footprint EL68D_M (CQFP, 68-Leads, Body 24.1x24.1mm; Pitch 1.27mm, Gullwing Leadform, IPC Low Density)
part A pins: 1 VCOM1, 6 OS1- (in), 7 OS1+ (in), 9 VCLP, 11 OS2+ (in), 12 OS2- (in), 17 VCOM2, 18 VREFB2, 19 VREFT2, 25 SDO (out), 26 SDI (in), 27 SCLK (in), 28 SEN (in), 29 NC, 30 CLPIN (in), 33 DTM1 (out), 34 DTM0 (out), 37 TXFRM+ (out), 38 TXFRM- (out), 39 TXOUT3+ (out), 40 TXOUT3- (out), 41 TXOUT2+ (out), 42 TXOUT2- (out), 43 TXOUT1+ (out), 44 TXOUT1- (out), 45 TXOUT0+ (out), 46 TXOUT0- (out), 47 TXCLK+ (out), 48 TXCLK- (out), 51 ATB0, 52 ATB1, 57 INCLK- (in), 58 INCLK+ (in), 63 IBIAS0, 64 IBIAS1, 65 VREFBG, 67 VREFT1, 68 VREFB1
part B pins: 2 VDD33 (power), 3 VDD33 (power), 4 VSS33 (power), 5 VSS33 (power), 8 VSS33 (power), 10 VSS33 (power), 13 VSS33 (power), 14 VSS33 (power), 15 VDD33 (power), 16 VDD33 (power), 20 VSS33 (power), 21 VSS33 (power), 22 VDD33 (power), 23 VDD33 (power), 24 VSS33 (power), 31 VSS18 (power), 32 VDD18 (power), 35 VDD18 (power), 36 VSS18 (power), 49 VSS18 (power), 50 VDD18 (power), 53 VDD18 (power), 54 VDD18 (power), 55 VSS18 (power), 56 VSS18 (power), 59 VSS33 (power), 60 VDD33 (power), 61 VDD33 (power), 62 VSS33 (power), 66 VSS33 (power)

## LM98640W-MPR
designator U?
Dual Channel, 14-Bit, 40 MSPS Analog Front End with LVDS Output, 68 pin CQFP; PartNumber: LM98640W-MPR; Manufacturer: National Semiconductor; PackageTopMarking: NSZSSXXYYA*LM98640W*-MPR ES; PowerWise: N; CompType: OtherParts; High-Reliability: Y; Published: 16-Nov-2010; DatasheetVersion: May-2010; PackageVersion: revB, Jul-2009; PackageReference: EL68D; Publisher: Altium Limited; PackageDescription: 68-Lead Ceramic Quad Flat Pack, 24.13 x 24.13 x 3.10 mm Body, 1.27 mm Pitch (CQFP); RoHS: N; PinCount: 68; ComponentLink1Description: LM98640QML Datasheet; ComponentLink1URL: http://www.national.com/ds/LM/LM98640QML.pdf; ComponentLink2Description: LM98640QML Web Page; ComponentLink2URL: http://www.national.com/pf/LM/LM98640QML.html
footprint EL68D_N (CQFP, 68-Leads, Body 24.1x24.1mm; Pitch 1.27mm, Gullwing Leadform, IPC Medium Density)
footprint EL68D_L (CQFP, 68-Leads, Body 24.1x24.1mm; Pitch 1.27mm, Gullwing Leadform, IPC High Density)
footprint EL68D_M (CQFP, 68-Leads, Body 24.1x24.1mm; Pitch 1.27mm, Gullwing Leadform, IPC Low Density)
part A pins: 1 VCOM1, 6 OS1- (in), 7 OS1+ (in), 9 VCLP, 11 OS2+ (in), 12 OS2- (in), 17 VCOM2, 18 VREFB2, 19 VREFT2, 25 SDO (out), 26 SDI (in), 27 SCLK (in), 28 SEN (in), 29 NC, 30 CLPIN (in), 33 DTM1 (out), 34 DTM0 (out), 37 TXFRM+ (out), 38 TXFRM- (out), 39 TXOUT3+ (out), 40 TXOUT3- (out), 41 TXOUT2+ (out), 42 TXOUT2- (out), 43 TXOUT1+ (out), 44 TXOUT1- (out), 45 TXOUT0+ (out), 46 TXOUT0- (out), 47 TXCLK+ (out), 48 TXCLK- (out), 51 ATB0, 52 ATB1, 57 INCLK- (in), 58 INCLK+ (in), 63 IBIAS0, 64 IBIAS1, 65 VREFBG, 67 VREFT1, 68 VREFB1
part B pins: 2 VDD33 (power), 3 VDD33 (power), 4 VSS33 (power), 5 VSS33 (power), 8 VSS33 (power), 10 VSS33 (power), 13 VSS33 (power), 14 VSS33 (power), 15 VDD33 (power), 16 VDD33 (power), 20 VSS33 (power), 21 VSS33 (power), 22 VDD33 (power), 23 VDD33 (power), 24 VSS33 (power), 31 VSS18 (power), 32 VDD18 (power), 35 VDD18 (power), 36 VSS18 (power), 49 VSS18 (power), 50 VDD18 (power), 53 VDD18 (power), 54 VDD18 (power), 55 VSS18 (power), 56 VSS18 (power), 59 VSS33 (power), 60 VDD33 (power), 61 VDD33 (power), 62 VSS33 (power), 66 VSS33 (power)

## LM98714BCMT
designator U?
Three Channel, 16-Bit, 45 MSPS Digital Copier Analog Front End with Integrated CCD/CIS Sensor Timing Generator and LVDS Output, 48-pin TSSOP; PartNumber: LM98714BCMT; Manufacturer: National Semiconductor; PackageTopMarking: THHD*XTT; PowerWise: N; CompType: OtherParts; Published: 4-Dec-2008; DatasheetVersion: Oct-2006; PackageVersion: revE, Apr-2003; PackageReference: MTD48; Publisher: Altium Limited; PackageDescription: Molded TSSOP, Jedec, 12.5 x 6.1 x 0.9mm Body, 48 Lead, 0.50mm Pitch; RoHS: Y; PinCount: 48; Code_JEDEC: MO-153-ED; ComponentLink1Description: LM98714 Datasheet; ComponentLink1URL: http://www.national.com/ds/LM/LM98714.pdf; ComponentLink2Description: LM98714 Web Page; ComponentLink2URL: http://www.national.com/pf/LM/LM98714.html; ComponentLink3Description: MTD48 Package Page; ComponentLink3URL: http://www.national.com/packaging/folders/mtd48.html
footprint MTD48_N (TSSOP, 48-Leads, Body 12.5x6.1mm, Pitch 0.5mm, IPC Medium Density)
footprint MTD48_L (TSSOP, 48-Leads, Body 12.5x6.1mm, Pitch 0.5mm, IPC High Density)
footprint MTD48_M (TSSOP, 48-Leads, Body 12.5x6.1mm, Pitch 0.5mm, IPC Low Density)
pins: 1 CLK 3 (out), 2 CLK 2 (out), 3 CLK 1 (out), 4 SH (out), 5 ~{RESET} (in), 6 SH_R (in), 7 SDIO (io), 8 SCLK (in), 9 ~{SEN} (in), 10 AGND (power), 11 VA (power), 12 VREFB (out), 13 VREFT (out), 14 VA (power), 15 AGND (power), 16 VCLP (power), 17 VA (power), 18 AGND (power), 19 OSR (in), 20 AGND (power), 21 OSG (in), 22 AGND (power), 23 OSB (in), 24 AGND (power), 25 DGND (power), 26 VR (power), 27 DVB (out), 28 INCLK+ (in), 29 INCLK- (in), 30 DOUT7/TXCLK+ (out), 31 DOUT6/TXCLK- (out), 32 DOUT5/TXOUT2+ (out), 33 DOUT4/TXOUT2- (out), 34 DOUT3/TXOUT1+ (out), 35 DOUT2/TXOUT1- (out), 36 DOUT1/TXOUT0+ (out), 37 DOUT0/TXOUT0- (out), 38 DGND (power), 39 VD (power), 40 CLKOUT/CLK10 (out), 41 CLK9 (out), 42 CLK8 (out), 43 CLK7 (out), 44 CLK6 (out), 45 CLK5 (out), 46 DGND (power), 47 VC (power), 48 CLK4 (out)

## LM98714BCMT/NOPB
designator U?
Three Channel, 16-Bit, 45 MSPS Digital Copier Analog Front End with Integrated CCD/CIS Sensor Timing Generator and LVDS Output, 48-pin TSSOP, Pb-Free; PartNumber: LM98714BCMT/NOPB; Manufacturer: National Semiconductor; PackageTopMarking: NSUZXYTTE#*LM98714*BCMT; PowerWise: N; CompType: OtherParts; Published: 1-Mar-2010; DatasheetVersion: Oct-2006; PackageVersion: revE, Apr-2003; PackageReference: MTD48; Publisher: Altium Limited; PackageDescription: Molded TSSOP, Jedec, 12.5 x 6.1 x 0.9mm Body, 48 Lead, 0.50mm Pitch; Supplier 1: Digi-Key; Supplier Part Number 1: LM98714BCMT-ND; RoHS: Y; PinCount: 48; Code_JEDEC: MO-153-ED; ComponentLink1Description: LM98714 Datasheet; ComponentLink1URL: http://www.national.com/ds/LM/LM98714.pdf; ComponentLink2Description: LM98714 Web Page; ComponentLink2URL: http://www.national.com/pf/LM/LM98714.html; ComponentLink3Description: MTD48 Package Page; ComponentLink3URL: http://www.national.com/packaging/folders/mtd48.html
footprint MTD48_N (TSSOP, 48-Leads, Body 12.5x6.1mm, Pitch 0.5mm, IPC Medium Density)
footprint MTD48_L (TSSOP, 48-Leads, Body 12.5x6.1mm, Pitch 0.5mm, IPC High Density)
footprint MTD48_M (TSSOP, 48-Leads, Body 12.5x6.1mm, Pitch 0.5mm, IPC Low Density)
pins: 1 CLK 3 (out), 2 CLK 2 (out), 3 CLK 1 (out), 4 SH (out), 5 ~{RESET} (in), 6 SH_R (in), 7 SDIO (io), 8 SCLK (in), 9 ~{SEN} (in), 10 AGND (power), 11 VA (power), 12 VREFB (out), 13 VREFT (out), 14 VA (power), 15 AGND (power), 16 VCLP (power), 17 VA (power), 18 AGND (power), 19 OSR (in), 20 AGND (power), 21 OSG (in), 22 AGND (power), 23 OSB (in), 24 AGND (power), 25 DGND (power), 26 VR (power), 27 DVB (out), 28 INCLK+ (in), 29 INCLK- (in), 30 DOUT7/TXCLK+ (out), 31 DOUT6/TXCLK- (out), 32 DOUT5/TXOUT2+ (out), 33 DOUT4/TXOUT2- (out), 34 DOUT3/TXOUT1+ (out), 35 DOUT2/TXOUT1- (out), 36 DOUT1/TXOUT0+ (out), 37 DOUT0/TXOUT0- (out), 38 DGND (power), 39 VD (power), 40 CLKOUT/CLK10 (out), 41 CLK9 (out), 42 CLK8 (out), 43 CLK7 (out), 44 CLK6 (out), 45 CLK5 (out), 46 DGND (power), 47 VC (power), 48 CLK4 (out)

## LM98714BCMTX/NOPB
designator U?
Three Channel, 16-Bit, 45 MSPS Digital Copier Analog Front End with Integrated CCD/CIS Sensor Timing Generator and LVDS Output, 48-pin TSSOP, Pb-Free; PartNumber: LM98714BCMTX/NOPB; Manufacturer: National Semiconductor; PackageTopMarking: NSUZXYTTE#*LM98714*BCMT; PowerWise: N; CompType: OtherParts; Published: 1-Mar-2010; DatasheetVersion: Oct-2006; PackageVersion: revE, Apr-2003; PackageReference: MTD48; Publisher: Altium Limited; PackageDescription: Molded TSSOP, Jedec, 12.5 x 6.1 x 0.9mm Body, 48 Lead, 0.50mm Pitch; Supplier 1: Digi-Key; Supplier Part Number 1: LM98714BCMTX-ND; RoHS: Y; PinCount: 48; Code_JEDEC: MO-153-ED; ComponentLink1Description: LM98714 Datasheet; ComponentLink1URL: http://www.national.com/ds/LM/LM98714.pdf; ComponentLink2Description: LM98714 Web Page; ComponentLink2URL: http://www.national.com/pf/LM/LM98714.html; ComponentLink3Description: MTD48 Package Page; ComponentLink3URL: http://www.national.com/packaging/folders/mtd48.html
footprint MTD48_N (TSSOP, 48-Leads, Body 12.5x6.1mm, Pitch 0.5mm, IPC Medium Density)
footprint MTD48_L (TSSOP, 48-Leads, Body 12.5x6.1mm, Pitch 0.5mm, IPC High Density)
footprint MTD48_M (TSSOP, 48-Leads, Body 12.5x6.1mm, Pitch 0.5mm, IPC Low Density)
pins: 1 CLK 3 (out), 2 CLK 2 (out), 3 CLK 1 (out), 4 SH (out), 5 ~{RESET} (in), 6 SH_R (in), 7 SDIO (io), 8 SCLK (in), 9 ~{SEN} (in), 10 AGND (power), 11 VA (power), 12 VREFB (out), 13 VREFT (out), 14 VA (power), 15 AGND (power), 16 VCLP (power), 17 VA (power), 18 AGND (power), 19 OSR (in), 20 AGND (power), 21 OSG (in), 22 AGND (power), 23 OSB (in), 24 AGND (power), 25 DGND (power), 26 VR (power), 27 DVB (out), 28 INCLK+ (in), 29 INCLK- (in), 30 DOUT7/TXCLK+ (out), 31 DOUT6/TXCLK- (out), 32 DOUT5/TXOUT2+ (out), 33 DOUT4/TXOUT2- (out), 34 DOUT3/TXOUT1+ (out), 35 DOUT2/TXOUT1- (out), 36 DOUT1/TXOUT0+ (out), 37 DOUT0/TXOUT0- (out), 38 DGND (power), 39 VD (power), 40 CLKOUT/CLK10 (out), 41 CLK9 (out), 42 CLK8 (out), 43 CLK7 (out), 44 CLK6 (out), 45 CLK5 (out), 46 DGND (power), 47 VC (power), 48 CLK4 (out)

## LM98722CCMT/NOPB
designator U?
Three Channel, 16-Bit, 45 MSPS Analog Front End with LVDS/CMOS Output and Integrated CCD/CIS Sensor Timing Generator, 56-pin TSSOP, Pb-Free; PartNumber: LM98722CCMT/NOPB; Manufacturer: National Semiconductor; PackageTopMarking: NSUZXYTTE#*LM98722CCMT; PowerWise: N; CompType: OtherParts; Published: 1-Mar-2010; DatasheetVersion: Sep-2009; PackageVersion: revD, Apr-2003; PackageReference: MTD56; Publisher: Altium Limited; PackageDescription: Molded TSSOP, Jedec, 14 x 6.1 x 0.9mm Body, 56 Lead, 0.50mm Pitch; Supplier 1: Digi-Key; Supplier Part Number 1: LM98722CCMT-ND; RoHS: Y; PinCount: 56; Code_IPC: TSSOP50P810-56; ComponentLink1Description: LM98722 Datasheet; ComponentLink1URL: http://www.national.com/ds/LM/LM98722.pdf; ComponentLink2Description: LM98722 Web Page; ComponentLink2URL: http://www.national.com/pf/LM/LM98722.html; ComponentLink3Description: MTD56 Package Page; ComponentLink3URL: http://www.national.com/packaging/folders/mtd56.html
footprint MTD56_N (TSSOP, 56-Leads, Body 14x6.1mm, Pitch 0.5mm, IPC Medium Density)
footprint MTD56_L (TSSOP, 56-Leads, Body 14x6.1mm, Pitch 0.5mm, IPC High Density)
footprint MTD56_M (TSSOP, 56-Leads, Body 14x6.1mm, Pitch 0.5mm, IPC Low Density)
pins: 1 PHIC2 (out), 2 PHIC1 (out), 3 SH1 (out), 4 CE (in), 5 CAL (in), 6 ~{RESET} (in), 7 SH_R (in), 8 SDI (in), 9 SDO (out), 10 SCLK (in), 11 ~{SEN} (in), 12 VA (power), 13 AGND (power), 14 VA (power), 15 VREFB (power), 16 VREFT (power), 17 VA (power), 18 AGND (power), 19 VCLP (io), 20 VA (power), 21 IBIAS (out), 22 AGND (power), 23 OSR (in), 24 AGND (power), 25 OSG (in), 26 AGND (power), 27 OSB (in), 28 CPOFILT2, 29 DGND (power), 30 CPOFILT1, 31 DVB (out), 32 INCLK+ (in), 33 INCLK- (in), 34 DOUT7/TXCLK+ (out), 35 DOUT6/TXCLK- (out), 36 DOUT5/TXOUT2+ (out), 37 DOUT4/TXOUT2- (out), 38 DOUT3/TXOUT1+ (out), 39 DOUT2/TXOUT1- (out), 40 DOUT1/TXOUT0+ (out), 41 DOUT0/TXOUT0- (out), 42 DGND (power), 43 VD (power), 44 VC (power), 45 CLKOUT/SH2 (out), 46 SH3 (out), 47 RS (out), 48 CP (out), 49 PHIA1 (out), 50 PHIA2 (out), 51 DGND (power), 52 VC (power), 53 PHIB1 (out), 54 PHIB2 (out), 55 SH4 (out), 56 SH5 (out)

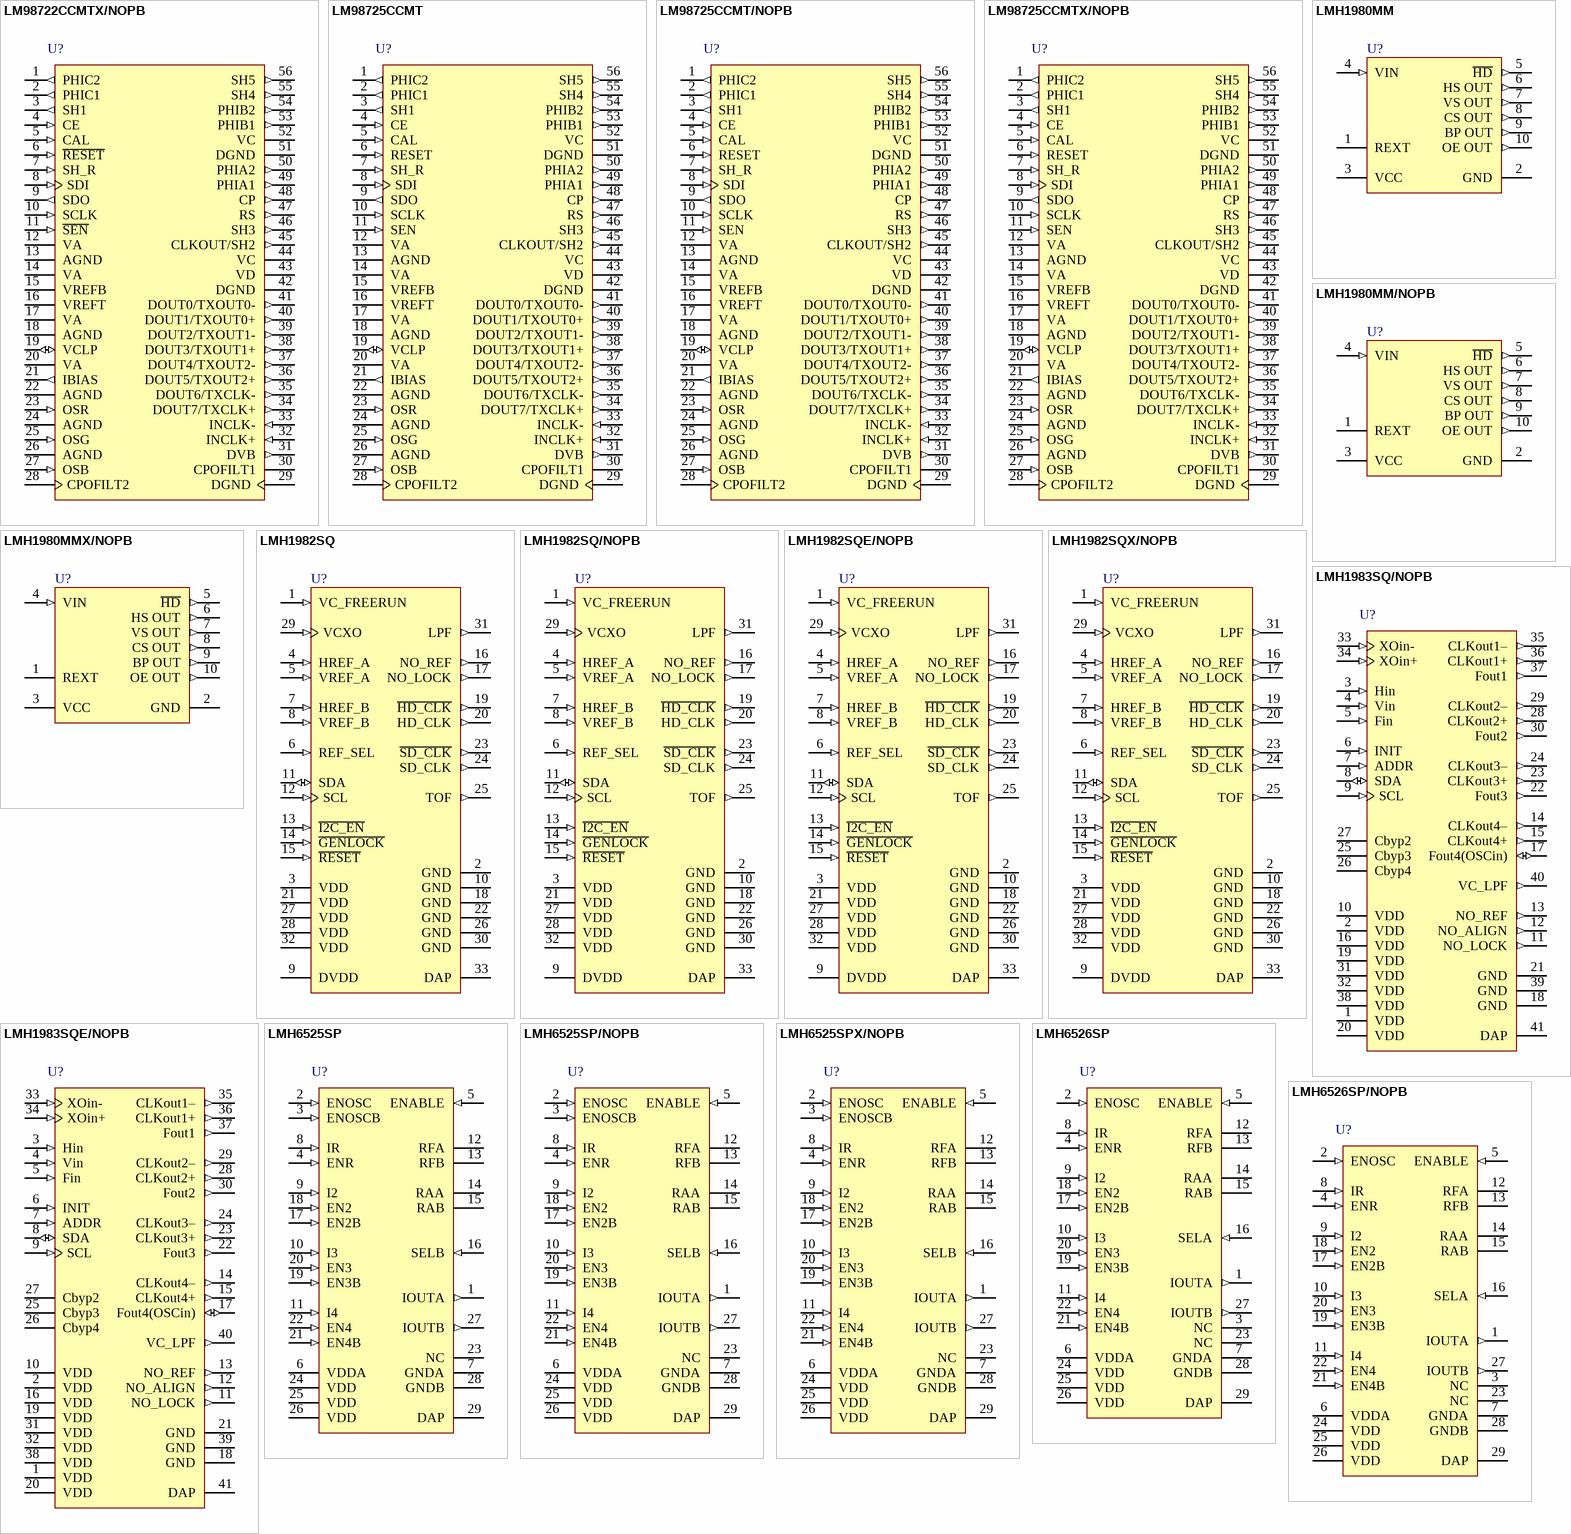
[diagram p9: symbols LM98722CCMTX/NOPB to LMH6526SP/NOPB]

## LM98722CCMTX/NOPB
designator U?
Three Channel, 16-Bit, 45 MSPS Analog Front End with LVDS/CMOS Output and Integrated CCD/CIS Sensor Timing Generator, 56-pin TSSOP, Pb-Free; PartNumber: LM98722CCMTX/NOPB; Manufacturer: National Semiconductor; PackageTopMarking: NSUZXYTTE#*LM98722CCMT; PowerWise: N; CompType: OtherParts; Published: 1-Mar-2010; DatasheetVersion: Sep-2009; PackageVersion: revD, Apr-2003; PackageReference: MTD56; Publisher: Altium Limited; PackageDescription: Molded TSSOP, Jedec, 14 x 6.1 x 0.9mm Body, 56 Lead, 0.50mm Pitch; Supplier 1: Digi-Key; Supplier Part Number 1: LM98722CCMTX-ND; RoHS: Y; PinCount: 56; Code_IPC: TSSOP50P810-56; ComponentLink1Description: LM98722 Datasheet; ComponentLink1URL: http://www.national.com/ds/LM/LM98722.pdf; ComponentLink2Description: LM98722 Web Page; ComponentLink2URL: http://www.national.com/pf/LM/LM98722.html; ComponentLink3Description: MTD56 Package Page; ComponentLink3URL: http://www.national.com/packaging/folders/mtd56.html
footprint MTD56_N (TSSOP, 56-Leads, Body 14x6.1mm, Pitch 0.5mm, IPC Medium Density)
footprint MTD56_L (TSSOP, 56-Leads, Body 14x6.1mm, Pitch 0.5mm, IPC High Density)
footprint MTD56_M (TSSOP, 56-Leads, Body 14x6.1mm, Pitch 0.5mm, IPC Low Density)
pins: 1 PHIC2 (out), 2 PHIC1 (out), 3 SH1 (out), 4 CE (in), 5 CAL (in), 6 ~{RESET} (in), 7 SH_R (in), 8 SDI (in), 9 SDO (out), 10 SCLK (in), 11 ~{SEN} (in), 12 VA (power), 13 AGND (power), 14 VA (power), 15 VREFB (power), 16 VREFT (power), 17 VA (power), 18 AGND (power), 19 VCLP (io), 20 VA (power), 21 IBIAS (out), 22 AGND (power), 23 OSR (in), 24 AGND (power), 25 OSG (in), 26 AGND (power), 27 OSB (in), 28 CPOFILT2, 29 DGND (power), 30 CPOFILT1, 31 DVB (out), 32 INCLK+ (in), 33 INCLK- (in), 34 DOUT7/TXCLK+ (out), 35 DOUT6/TXCLK- (out), 36 DOUT5/TXOUT2+ (out), 37 DOUT4/TXOUT2- (out), 38 DOUT3/TXOUT1+ (out), 39 DOUT2/TXOUT1- (out), 40 DOUT1/TXOUT0+ (out), 41 DOUT0/TXOUT0- (out), 42 DGND (power), 43 VD (power), 44 VC (power), 45 CLKOUT/SH2 (out), 46 SH3 (out), 47 RS (out), 48 CP (out), 49 PHIA1 (out), 50 PHIA2 (out), 51 DGND (power), 52 VC (power), 53 PHIB1 (out), 54 PHIB2 (out), 55 SH4 (out), 56 SH5 (out)

## LM98725CCMT
designator U?
Three Channel, 16-Bit, 81 MSPS Analog Front End with LVDS/CMOS Output and Integrated CCD/CIS Sensor Timing Generator, 56-pin TSSOP; PartNumber: LM98725CCMT; Manufacturer: National Semiconductor; PackageTopMarking: NSUZXYTT*LM98725CCMT; PowerWise: N; CompType: OtherParts; Published: 29-May-2009; DatasheetVersion: Sep-2009; PackageVersion: revD, Apr-2003; PackageReference: MTD56; Publisher: Altium Limited; PackageDescription: Molded TSSOP, Jedec, 14 x 6.1 x 0.9mm Body, 56 Lead, 0.50mm Pitch; RoHS: Y; PinCount: 56; Code_IPC: TSSOP50P810-56; ComponentLink1Description: LM98725 Datasheet; ComponentLink1URL: http://www.national.com/ds/LM/LM98725.pdf; ComponentLink2Description: LM98725 Web Page; ComponentLink2URL: http://www.national.com/pf/LM/LM98725.html; ComponentLink3Description: MTD56 Package Page; ComponentLink3URL: http://www.national.com/packaging/folders/mtd56.html
footprint MTD56_N (TSSOP, 56-Leads, Body 14x6.1mm, Pitch 0.5mm, IPC Medium Density)
footprint MTD56_L (TSSOP, 56-Leads, Body 14x6.1mm, Pitch 0.5mm, IPC High Density)
footprint MTD56_M (TSSOP, 56-Leads, Body 14x6.1mm, Pitch 0.5mm, IPC Low Density)
pins: 1 PHIC2 (out), 2 PHIC1 (out), 3 SH1 (out), 4 CE (in), 5 CAL (in), 6 RESET (in), 7 SH_R (in), 8 SDI (in), 9 SDO (out), 10 SCLK (in), 11 SEN (in), 12 VA (power), 13 AGND (power), 14 VA (power), 15 VREFB (power), 16 VREFT (power), 17 VA (power), 18 AGND (power), 19 VCLP (io), 20 VA (power), 21 IBIAS (out), 22 AGND (power), 23 OSR (in), 24 AGND (power), 25 OSG (in), 26 AGND (power), 27 OSB (in), 28 CPOFILT2, 29 DGND (power), 30 CPOFILT1, 31 DVB (out), 32 INCLK+ (in), 33 INCLK- (in), 34 DOUT7/TXCLK+ (out), 35 DOUT6/TXCLK- (out), 36 DOUT5/TXOUT2+ (out), 37 DOUT4/TXOUT2- (out), 38 DOUT3/TXOUT1+ (out), 39 DOUT2/TXOUT1- (out), 40 DOUT1/TXOUT0+ (out), 41 DOUT0/TXOUT0- (out), 42 DGND (power), 43 VD (power), 44 VC (power), 45 CLKOUT/SH2 (out), 46 SH3 (out), 47 RS (out), 48 CP (out), 49 PHIA1 (out), 50 PHIA2 (out), 51 DGND (power), 52 VC (power), 53 PHIB1 (out), 54 PHIB2 (out), 55 SH4 (out), 56 SH5 (out)

## LM98725CCMT/NOPB
designator U?
Three Channel, 16-Bit, 81 MSPS Analog Front End with LVDS/CMOS Output and Integrated CCD/CIS Sensor Timing Generator, 56-pin TSSOP, Pb-Free; PartNumber: LM98725CCMT/NOPB; Manufacturer: National Semiconductor; PackageTopMarking: NSUZXYTTE#*LM98725CCMT; PowerWise: N; CompType: OtherParts; Published: 1-Mar-2010; DatasheetVersion: Sep-2009; PackageVersion: revD, Apr-2003; PackageReference: MTD56; Publisher: Altium Limited; PackageDescription: Molded TSSOP, Jedec, 14 x 6.1 x 0.9mm Body, 56 Lead, 0.50mm Pitch; Supplier 1: Digi-Key; Supplier Part Number 1: LM98725CCMT-ND; RoHS: Y; PinCount: 56; Code_IPC: TSSOP50P810-56; ComponentLink1Description: LM98725 Datasheet; ComponentLink1URL: http://www.national.com/ds/LM/LM98725.pdf; ComponentLink2Description: LM98725 Web Page; ComponentLink2URL: http://www.national.com/pf/LM/LM98725.html; ComponentLink3Description: MTD56 Package Page; ComponentLink3URL: http://www.national.com/packaging/folders/mtd56.html
footprint MTD56_N (TSSOP, 56-Leads, Body 14x6.1mm, Pitch 0.5mm, IPC Medium Density)
footprint MTD56_L (TSSOP, 56-Leads, Body 14x6.1mm, Pitch 0.5mm, IPC High Density)
footprint MTD56_M (TSSOP, 56-Leads, Body 14x6.1mm, Pitch 0.5mm, IPC Low Density)
pins: 1 PHIC2 (out), 2 PHIC1 (out), 3 SH1 (out), 4 CE (in), 5 CAL (in), 6 RESET (in), 7 SH_R (in), 8 SDI (in), 9 SDO (out), 10 SCLK (in), 11 SEN (in), 12 VA (power), 13 AGND (power), 14 VA (power), 15 VREFB (power), 16 VREFT (power), 17 VA (power), 18 AGND (power), 19 VCLP (io), 20 VA (power), 21 IBIAS (out), 22 AGND (power), 23 OSR (in), 24 AGND (power), 25 OSG (in), 26 AGND (power), 27 OSB (in), 28 CPOFILT2, 29 DGND (power), 30 CPOFILT1, 31 DVB (out), 32 INCLK+ (in), 33 INCLK- (in), 34 DOUT7/TXCLK+ (out), 35 DOUT6/TXCLK- (out), 36 DOUT5/TXOUT2+ (out), 37 DOUT4/TXOUT2- (out), 38 DOUT3/TXOUT1+ (out), 39 DOUT2/TXOUT1- (out), 40 DOUT1/TXOUT0+ (out), 41 DOUT0/TXOUT0- (out), 42 DGND (power), 43 VD (power), 44 VC (power), 45 CLKOUT/SH2 (out), 46 SH3 (out), 47 RS (out), 48 CP (out), 49 PHIA1 (out), 50 PHIA2 (out), 51 DGND (power), 52 VC (power), 53 PHIB1 (out), 54 PHIB2 (out), 55 SH4 (out), 56 SH5 (out)

## LM98725CCMTX/NOPB
designator U?
Three Channel, 16-Bit, 81 MSPS Analog Front End with LVDS/CMOS Output and Integrated CCD/CIS Sensor Timing Generator, 56-pin TSSOP, Pb-Free; PartNumber: LM98725CCMTX/NOPB; Manufacturer: National Semiconductor; PackageTopMarking: NSUZXYTTE#*LM98725CCMT; PowerWise: N; CompType: OtherParts; Published: 1-Mar-2010; DatasheetVersion: Sep-2009; PackageVersion: revD, Apr-2003; PackageReference: MTD56; Publisher: Altium Limited; PackageDescription: Molded TSSOP, Jedec, 14 x 6.1 x 0.9mm Body, 56 Lead, 0.50mm Pitch; Supplier 1: Digi-Key; Supplier Part Number 1: LM98725CCMTX-ND; RoHS: Y; PinCount: 56; Code_IPC: TSSOP50P810-56; ComponentLink1Description: LM98725 Datasheet; ComponentLink1URL: http://www.national.com/ds/LM/LM98725.pdf; ComponentLink2Description: LM98725 Web Page; ComponentLink2URL: http://www.national.com/pf/LM/LM98725.html; ComponentLink3Description: MTD56 Package Page; ComponentLink3URL: http://www.national.com/packaging/folders/mtd56.html
footprint MTD56_N (TSSOP, 56-Leads, Body 14x6.1mm, Pitch 0.5mm, IPC Medium Density)
footprint MTD56_L (TSSOP, 56-Leads, Body 14x6.1mm, Pitch 0.5mm, IPC High Density)
footprint MTD56_M (TSSOP, 56-Leads, Body 14x6.1mm, Pitch 0.5mm, IPC Low Density)
pins: 1 PHIC2 (out), 2 PHIC1 (out), 3 SH1 (out), 4 CE (in), 5 CAL (in), 6 RESET (in), 7 SH_R (in), 8 SDI (in), 9 SDO (out), 10 SCLK (in), 11 SEN (in), 12 VA (power), 13 AGND (power), 14 VA (power), 15 VREFB (power), 16 VREFT (power), 17 VA (power), 18 AGND (power), 19 VCLP (io), 20 VA (power), 21 IBIAS (out), 22 AGND (power), 23 OSR (in), 24 AGND (power), 25 OSG (in), 26 AGND (power), 27 OSB (in), 28 CPOFILT2, 29 DGND (power), 30 CPOFILT1, 31 DVB (out), 32 INCLK+ (in), 33 INCLK- (in), 34 DOUT7/TXCLK+ (out), 35 DOUT6/TXCLK- (out), 36 DOUT5/TXOUT2+ (out), 37 DOUT4/TXOUT2- (out), 38 DOUT3/TXOUT1+ (out), 39 DOUT2/TXOUT1- (out), 40 DOUT1/TXOUT0+ (out), 41 DOUT0/TXOUT0- (out), 42 DGND (power), 43 VD (power), 44 VC (power), 45 CLKOUT/SH2 (out), 46 SH3 (out), 47 RS (out), 48 CP (out), 49 PHIA1 (out), 50 PHIA2 (out), 51 DGND (power), 52 VC (power), 53 PHIB1 (out), 54 PHIB2 (out), 55 SH4 (out), 56 SH5 (out)

## LMH1980MM
designator U?
Auto-Detecting SD/HD/PC Video Sync Separator, 10-pin MSOP; PartNumber: LMH1980MM; Manufacturer: National Semiconductor; PackageTopMarking: ZXTT*AL4A; PowerWise: N; CompType: OtherParts; Published: 4-Dec-2008; DatasheetVersion: Jul-2007; PackageVersion: revB, Jul-2003; PackageReference: MUB10A; Publisher: Altium Limited; PackageDescription: Mini-SO, Molded, .118 x .118 x .034in Body, 10 Lead, .0197in Pitch; RoHS: Y; Pin Count: 10; Code_JEDEC: MO-187-BA; ComponentLink1Description: LMH1980 Datasheet; ComponentLink1URL: http://www.national.com/ds/LM/LMH1980.pdf; ComponentLink2Description: LMH1980 Web Page; ComponentLink2URL: http://www.national.com/pf/LM/LMH1980.html; ComponentLink3Description: MUB10A Package Page; ComponentLink3URL: http://www.national.com/packaging/folders/mub10a.html
footprint MUB10A_N (TSSOP, 10-Leads, Body 3x3mm, Pitch 0.5mm, IPC Medium Density)
footprint MUB10A_L (TSSOP, 10-Leads, Body 3x3mm, Pitch 0.5mm, IPC High Density)
footprint MUB10A_M (TSSOP, 10-Leads, Body 3x3mm, Pitch 0.5mm, IPC Low Density)
pins: 1 REXT, 2 GND (power), 3 VCC (power), 4 VIN (in), 5 ~{HD} (out), 6 HS OUT (out), 7 VS OUT (out), 8 CS OUT (out), 9 BP OUT (out), 10 OE OUT (out)

## LMH1980MM/NOPB
designator U?
Auto-Detecting SD/HD/PC Video Sync Separator, 10-pin Mini SOIC, Pb-Free; PartNumber: LMH1980MM/NOPB; Manufacturer: National Semiconductor; PackageTopMarking: ZXTT*AL4A; PowerWise: N; CompType: OtherParts; Published: 1-Mar-2010; DatasheetVersion: Jul-2007; PackageVersion: revB, Jul-2003; PackageReference: MUB10A; Publisher: Altium Limited; PackageDescription: Mini-SO, Molded, .118 x .118 x .034in Body, 10 Lead, .0197in Pitch; Supplier 1: Digi-Key; Supplier Part Number 1: LMH1980MMTR-ND; Supplier 2: Digi-Key; Supplier Part Number 2: LMH1980MMCT-ND; Supplier 3: Digi-Key; Supplier Part Number 3: LMH1980MMDKR-ND; Supplier 4: Farnell; Supplier Part Number 4: 1652275; RoHS: Y; PinCount: 10; Code_JEDEC: MO-187-BA; ComponentLink1Description: LMH1980 Datasheet; ComponentLink1URL: http://www.national.com/ds/LM/LMH1980.pdf; ComponentLink2Description: LMH1980 Web Page; ComponentLink2URL: http://www.national.com/pf/LM/LMH1980.html; ComponentLink3Description: MUB10A Package Page; ComponentLink3URL: http://www.national.com/packaging/folders/mub10a.html
footprint MUB10A_N (TSSOP, 10-Leads, Body 3x3mm, Pitch 0.5mm, IPC Medium Density)
footprint MUB10A_L (TSSOP, 10-Leads, Body 3x3mm, Pitch 0.5mm, IPC High Density)
footprint MUB10A_M (TSSOP, 10-Leads, Body 3x3mm, Pitch 0.5mm, IPC Low Density)
pins: 1 REXT, 2 GND (power), 3 VCC (power), 4 VIN (in), 5 ~{HD} (out), 6 HS OUT (out), 7 VS OUT (out), 8 CS OUT (out), 9 BP OUT (out), 10 OE OUT (out)